# EAGLE library part 693030010810 (library EagleLibrary_Wuerth_Elektronik_eiCan_Communication_Connectors_v6_20150113)
WR-CRD Smart Card_Standard Header=>Code : Con_I-O_COM_CRD_Smart_693030010810 <http://katalog.we-online.de/media/images/eican/Con_I-O_COM_CRD_Smart_693030010810_pf2.jpg> Details see: http://katalog.we-online.de/en/em/693_030_010_810 Created 2014-07-09, Karrer Zheng 2014 (C) Würth Elektronik
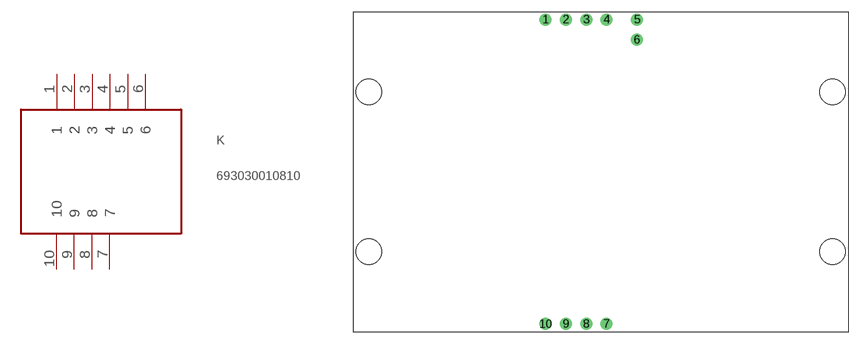
[diagram p142: symbol with the pads of 693030010810; footprint 693030010810]

Designator prefix K

## 693030010810  [693030010810]
1  1
2  2
3  3
4  4
5  5
6  6
7  7
8  8
9  9
10  10

## Footprint 693030010810 (pad centres in mm)
WR-CRD Smart Card_Standard Header
drill 1: 1 0,38.1; 2 2.54,38.1; 3 5.08,38.1; 4 7.62,38.1; 5 11.43,38.1; 6 11.43,35.56; 7 7.62,0; 8 5.08,0; 9 2.54,0; 10 0,0
hole 3.2 at 35.88,29.05
hole 3.2 at 35.88,9.05
hole 3.2 at -22.12,29.05
hole 3.2 at -22.12,9.05